# EAGLE library part DS04 (library misc)
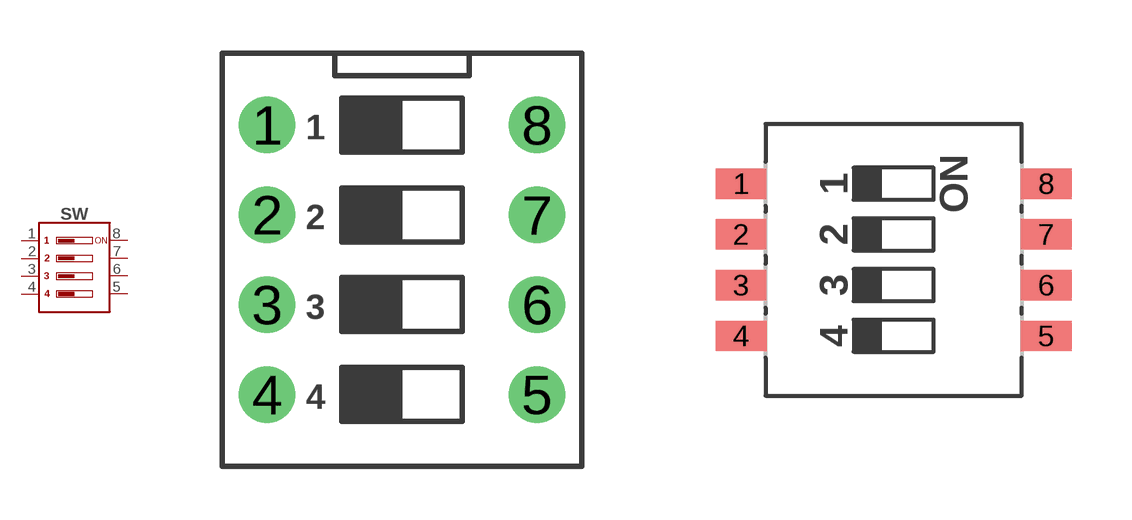
[diagram p88: symbol with the pads of DS-04; footprints DS-04, KLS7-KPR-04]

Designator prefix SW

## DS04-DS  [DS-04]
1  1  pas
2  2  pas
3  3  pas
4  4  pas
5  5  pas
6  6  pas
7  7  pas
8  8  pas

## DS04-KLS7-KPR (MANF: KLS; MANF#: L-KLS7-KPR-04-N-11)  [KLS7-KPR-04]
Pads as for DS-04

## Footprint DS-04 (pad centres in mm)
DIL/CODE SWITCH Mors distributor Buerklin, 17G558 3D model <https://grabcad.com/library/toggle-switches-dip-2-54mm-1>
drill 0.9 pad 1.6: 1 -3.81,3.81; 2 -3.81,1.27; 3 -3.81,-1.27; 4 -3.81,-3.81; 5 3.81,-3.81; 6 3.81,-1.27; 7 3.81,1.27; 8 3.81,3.81

## Footprint KLS7-KPR-04 (pad centres in mm)
Datasheet <http://www.klsele.com/admin/product_upload/20160706152714KLS7-KPR.pdf>
smd 1.27 x 0.76: 1 -3.815,1.905; 2 -3.815,0.635; 3 -3.815,-0.635; 4 -3.805,-1.905; 5 3.815,-1.905; 6 3.815,-0.635; 7 3.815,0.635; 8 3.815,1.905